# Altium footprint library GenericFootprints.PcbLib: 12 footprints
Each footprint in its own frame and in the unit in brackets; x right, y up, seen from the top. Pads: shape width x height; smd on the part's side, far side on the other; paste and mask are expansions set on the pad; w line width, h text height; cw(c..) or ccw(c..) is an arc to the next point about the centre after c.
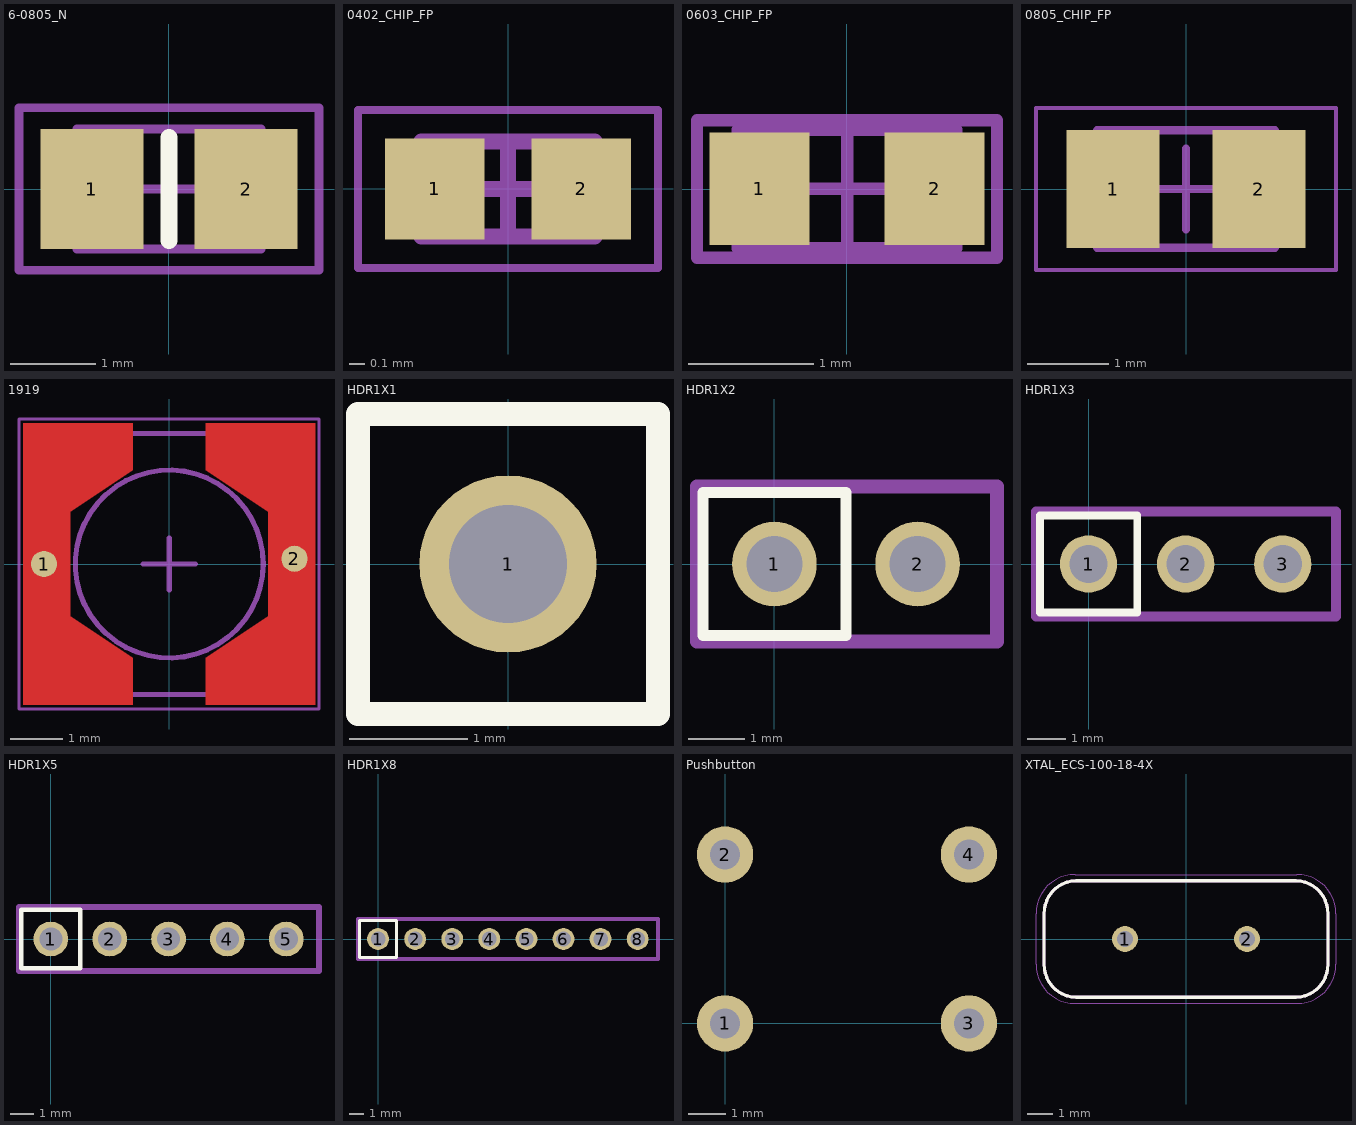
[diagram p0: the footprints below, top view; thin cyan lines are the x and y axes]

## 6-0805_N [mm] "Chip Resistor, Body 2.0x1.2mm, IPC Medium Density"
height 0.7
pads (2):
  rect 1.2x1.4 smd: 1(-0.9,0) 2(0.9,0)
Top Overlay:
  lines w0.2: 0,-0.6 0,0.6
Mechanical 13:
  lines w0.1: -1.075,-0.7 -1.075,0.7 1.075,0.7 1.075,-0.7 -1.075,-0.7
Mechanical 15:
  lines w0.1: -0.5,0 0.5,0 ; 0,-0.5 0,0.5 ; -1.75,-0.95 -1.75,0.95 1.75,0.95 1.75,-0.95 -1.75,-0.95
3D body: height 0.7, standoff 0, extent -1.075,-0.7 1.075,0.7

## 0402_CHIP_FP [mm] "0402 1.00 x .05mm Medium density IPC"
height 0.45
pads (2):
  rect 0.63x0.64 smd: 1(-0.465,0) 2(0.465,0)
Mechanical 13:
  lines w0.1: -0.55,-0.3 -0.55,0.3 0.55,0.3 0.55,-0.3 -0.55,-0.3
Mechanical 15:
  lines w0.05: -0.95,-0.5 -0.95,0.5 0.95,0.5 0.95,-0.5 -0.95,-0.5
  lines w0.1: -0.3,0 0.3,0 ; 0,-0.3 0,0.3
3D body: height 0.45, standoff 0, extent -0.3,-0.3 0.3,0.3
3D body: height 0.45, standoff 0, extent -0.55,-0.3 -0.3,0.3
3D body: height 0.45, standoff 0, extent 0.3,-0.3 0.55,0.3

## 0603_CHIP_FP [mm] "Chip Capacitor, Body 1.6x0.8mm, IPC High Density"
height 1.3
pads (2):
  rect 0.8x0.9 smd: 1(-0.7,0) 2(0.7,0)
Mechanical 13:
  lines w0.1: -0.875,-0.475 -0.875,0.475 0.875,0.475 0.875,-0.475 -0.875,-0.475
Mechanical 15:
  lines w0.1: -0.475,0 0.475,0 ; 0,-0.475 0,0.475 ; -1.2,-0.55 -1.2,0.55 1.2,0.55 1.2,-0.55 -1.2,-0.55
3D body: height 1.3, standoff 0, extent -0.875,-0.475 0.875,0.475

## 0805_CHIP_FP [mm] "Molded 2-Leads, Body 2.00x1.25mm, IPC Medium Density"
height 1.45
pads (2):
  rect 1.15x1.45 smd: 1(-0.9,0) 2(0.9,0)
Mechanical 13:
  lines w0.1: -1.1,-0.725 -1.1,0.725 1.1,0.725 1.1,-0.725 -1.1,-0.725
Mechanical 15:
  lines w0.05: -1.85,-1 -1.85,1 1.85,1 1.85,-1 -1.85,-1
  lines w0.1: -0.5,0 0.5,0 ; 0,-0.5 0,0.5
3D body: height 1.45, standoff 0, extent -1.1,-0.725 1.1,0.725

## 1919 [mm]
height 1.45
pads (2):
  round 0.5 smd: 1(-2.4,0) 2(2.4,0.1)
Top Layer:
  region: -0.7,1.8 -0.7,2.7 -2.8,2.7 -2.8,-2.7 -0.7,-2.7 -0.7,-1.8 -1.9,-1 -1.9,1
  region: 0.7,-1.8 0.7,-2.7 2.8,-2.7 2.8,2.7 0.7,2.7 0.7,1.8 1.9,1 1.9,-1
Mechanical 13:
  lines w0.1: -2.5,-2.5 2.5,-2.5 2.5,2.5 -2.5,2.5 -2.5,-2.5
Mechanical 15:
  circle w0.1: c0,0 r1.8
  lines w0.05: -2.88,-2.78 -2.88,2.78 2.87,2.78 2.87,-2.78 -2.88,-2.78
  lines w0.1: -0.5,0 0.5,0 ; 0,-0.5 0,0.5
3D body: height 1.45, standoff 0, extent -2.5,-2.5 2.5,2.5

## HDR1X1 [mm] "Connector; Header; 1 Position"
pads (1):
  round 1.5 hole 1: 1(0,0)
Top Overlay:
  lines w0.2: -1.27,-1.27 1.27,-1.27 1.27,1.27 -1.27,1.27 -1.27,-1.27

## HDR1X2 [mm] "Connector; Header; 2 Position"
pads (2):
  round 1.5 hole 1: 1(0,0) 2(2.54,0)
Top Overlay:
  lines w0.2: -1.27,-1.27 -1.27,1.27 1.27,1.27 1.27,-1.27 -1.27,-1.27
Mechanical 15:
  lines w0.254: -1.375,-1.375 -1.375,1.375 3.95,1.375 3.95,-1.375 -1.375,-1.375

## HDR1X3 [mm] "Connector; Header; 3 Position"
pads (3):
  round 1.5 hole 1: 1(0,0) 2(2.54,0) 3(5.08,0)
Top Overlay:
  lines w0.2: -1.27,-1.27 1.27,-1.27 1.27,1.27 -1.27,1.27 -1.27,-1.27
Mechanical 15:
  lines w0.254: -1.375,-1.375 6.475,-1.375 6.475,1.375 -1.375,1.375 -1.375,-1.375

## HDR1X5 [mm] "Connector; Header; 5 Position"
pads (5):
  round 1.5 hole 1: 1(0,0) 2(2.54,0) 3(5.08,0) 4(7.62,0) 5(10.16,0)
Top Overlay:
  lines w0.2: -1.27,-1.27 1.27,-1.27 1.27,1.27 -1.27,1.27 -1.27,-1.27
Mechanical 15:
  lines w0.254: -1.375,-1.375 11.575,-1.375 11.575,1.375 -1.375,1.375 -1.375,-1.375

## HDR1X8 [mm] "Connector; Header; 8 Position"
pads (8):
  round 1.5 hole 1: 1(0,0) 2(2.54,0) 3(5.08,0) 4(7.62,0) 5(10.16,0) 6(12.7,0) 7(15.24,0) 8(17.78,0)
Top Overlay:
  lines w0.2: -1.27,-1.27 1.27,-1.27 1.27,1.27 -1.27,1.27 -1.27,-1.27
Mechanical 15:
  lines w0.254: -1.375,-1.375 19.175,-1.375 19.175,1.375 -1.375,1.375 -1.375,-1.375

## Pushbutton [mm]
pads (4):
  round 1.5 hole 0.8: 1(0,0) 2(0,4.5) 3(6.5,0) 4(6.5,4.5)

## XTAL_ECS-100-18-4X [mm]
pads (2):
  round 1.03 hole 0.63: 1(-2.44,0) 2(2.44,0)
Top Overlay:
  lines w0.127: -5.675,-1.012 ccw(c-4.38,-1.035) -4.403,-2.33 ; -5.675,-1.01 -5.675,1.01 ; -5.675,1.012 cw(c-4.38,1.035) -4.403,2.33 ; -4.405,-2.33 4.405,-2.33 ; -4.405,2.33 4.405,2.33 ; 4.403,-2.33 ccw(c4.38,-1.035) 5.675,-1.012 ; 4.403,2.33 cw(c4.38,1.035) 5.675,1.012 ; 5.675,-1.01 5.675,1.01
Mechanical 4:
  lines w0.127: -5.675,-1.012 ccw(c-4.38,-1.035) -4.403,-2.33 cw(c-4.38,-1.035) -5.675,-1.012 ; -5.675,-1.01 -5.675,1.01 -5.675,-1.01 ; -5.675,1.012 cw(c-4.38,1.035) -4.403,2.33 ccw(c-4.38,1.035) -5.675,1.012 ; -4.405,-2.33 4.405,-2.33 -4.405,-2.33 ; -4.405,2.33 4.405,2.33 -4.405,2.33 ; 4.403,-2.33 ccw(c4.38,-1.035) 5.675,-1.012 cw(c4.38,-1.035) 4.403,-2.33 ; 4.403,2.33 cw(c4.38,1.035) 5.675,1.012 ccw(c4.38,1.035) 4.403,2.33 ; 5.675,-1.01 5.675,1.01 5.675,-1.01
Mechanical 16:
  lines w0.05: -6,-1.01 ccw(c-4.43,-1.01) -4.43,-2.58 4.43,-2.58 ccw(c4.43,-1.01) 6,-1.01 6,1.01 ccw(c4.43,1.01) 4.43,2.58 -4.43,2.58 ccw(c-4.43,1.01) -6,1.01 -6,-1.01